# EAGLE library part MCP2221 (library Microchip)
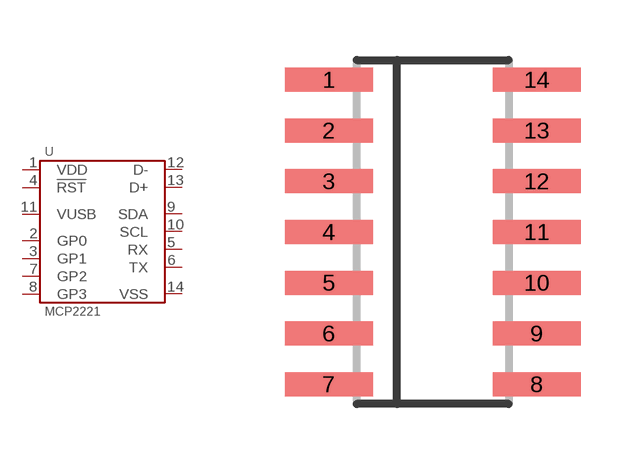
[diagram p8: symbol with the pads of SOIC-14; footprint SOIC-14]

Designator prefix U

## MCP2221  [SOIC-14]
1  VDD
2  GP0
3  GP1
4  !RST
5  RX
6  TX
7  GP2
8  GP3
9  SDA
10  SCL
11  VUSB
12  D-
13  D+
14  VSS

## Footprint SOIC-14 (pad centres in mm)
smd 2.2 x 0.6: 1 -2.6,3.81; 2 -2.6,2.54; 3 -2.6,1.27; 4 -2.6,0; 5 -2.6,-1.27; 6 -2.6,-2.54; 7 -2.6,-3.81; 8 2.6,-3.81; 9 2.6,-2.54; 10 2.6,-1.27; 11 2.6,0; 12 2.6,1.27; 13 2.6,2.54; 14 2.6,3.81